# EAGLE library part STM32F429V (library STMicroelectronics)
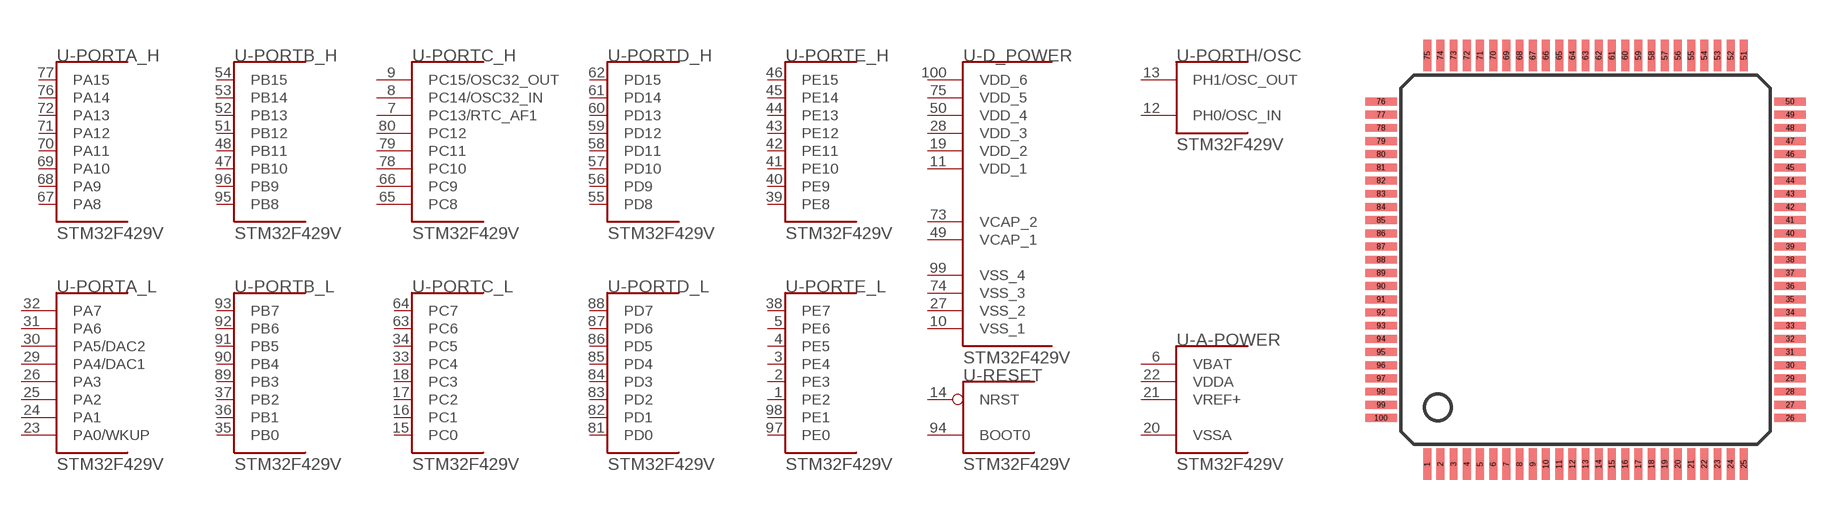
[diagram p1: symbol with the pads of LQFP100; footprint LQFP100]

Designator prefix U; gates -PORTA_L=STM32F_PORTA_L-1 -PORTB_H=STM32F_PORTB_H -PORTB_L=STM32F_PORTB_L -PORTC_H=STM32F_PORTC_H-1 -PORTC_L=STM32F_PORTC_L -PORTD_H=STM32F_PORTD_H -PORTD_L=STM32F_PORTD_L -PORTE_H=STM32F_PORTE_H -PORTE_L=STM32F_PORTE_L -PORTH/OSC=STM32F_PORTH_L -A-POWER=STM32F_A-POWER -PORTA_H=STM32F_PORTA_H -D_POWER=STM32F429VX_D-POWER -RESET=STM32F429VX_RESET

## STM32F429VG (DISTRIBUTOR: Mouser; OC_MOUSER: 511-STM32F429VGT6; ORDER_CODE: 511-STM32F429VGT6)  [LQFP100]
1  -PORTE_L:PE2
2  -PORTE_L:PE3
3  -PORTE_L:PE4
4  -PORTE_L:PE5
5  -PORTE_L:PE6
6  -A-POWER:VBAT  pwr
7  -PORTC_H:PC13/RTC_AF1
8  -PORTC_H:PC14/OSC32_IN
9  -PORTC_H:PC15/OSC32_OUT
10  -D_POWER:VSS_1  pwr
11  -D_POWER:VDD_1  pwr
12  -PORTH/OSC:PH0/OSC_IN  in
13  -PORTH/OSC:PH1/OSC_OUT  out
14  -RESET:NRST  in
15  -PORTC_L:PC0
16  -PORTC_L:PC1
17  -PORTC_L:PC2
18  -PORTC_L:PC3
19  -D_POWER:VDD_2  pwr
20  -A-POWER:VSSA  pwr
21  -A-POWER:VREF+  pwr
22  -A-POWER:VDDA  pwr
23  -PORTA_L:PA0/WKUP
24  -PORTA_L:PA1
25  -PORTA_L:PA2
26  -PORTA_L:PA3
27  -D_POWER:VSS_2  pwr
28  -D_POWER:VDD_3  pwr
29  -PORTA_L:PA4/DAC1
30  -PORTA_L:PA5/DAC2
31  -PORTA_L:PA6
32  -PORTA_L:PA7
33  -PORTC_L:PC4
34  -PORTC_L:PC5
35  -PORTB_L:PB0
36  -PORTB_L:PB1
37  -PORTB_L:PB2
38  -PORTE_L:PE7
39  -PORTE_H:PE8
40  -PORTE_H:PE9
41  -PORTE_H:PE10
42  -PORTE_H:PE11
43  -PORTE_H:PE12
44  -PORTE_H:PE13
45  -PORTE_H:PE14
46  -PORTE_H:PE15
47  -PORTB_H:PB10
48  -PORTB_H:PB11
49  -D_POWER:VCAP_1  pwr
50  -D_POWER:VDD_4  pwr
51  -PORTB_H:PB12
52  -PORTB_H:PB13
53  -PORTB_H:PB14
54  -PORTB_H:PB15
55  -PORTD_H:PD8
56  -PORTD_H:PD9
57  -PORTD_H:PD10
58  -PORTD_H:PD11
59  -PORTD_H:PD12
60  -PORTD_H:PD13
61  -PORTD_H:PD14
62  -PORTD_H:PD15
63  -PORTC_L:PC6
64  -PORTC_L:PC7
65  -PORTC_H:PC8
66  -PORTC_H:PC9
67  -PORTA_H:PA8
68  -PORTA_H:PA9
69  -PORTA_H:PA10
70  -PORTA_H:PA11
71  -PORTA_H:PA12
72  -PORTA_H:PA13
73  -D_POWER:VCAP_2  pwr
74  -D_POWER:VSS_3  pwr
75  -D_POWER:VDD_5  pwr
76  -PORTA_H:PA14
77  -PORTA_H:PA15
78  -PORTC_H:PC10
79  -PORTC_H:PC11
80  -PORTC_H:PC12
81  -PORTD_L:PD0
82  -PORTD_L:PD1
83  -PORTD_L:PD2
84  -PORTD_L:PD3
85  -PORTD_L:PD4
86  -PORTD_L:PD5
87  -PORTD_L:PD6
88  -PORTD_L:PD7
89  -PORTB_L:PB3
90  -PORTB_L:PB4
91  -PORTB_L:PB5
92  -PORTB_L:PB6
93  -PORTB_L:PB7
94  -RESET:BOOT0
95  -PORTB_H:PB8
96  -PORTB_H:PB9
97  -PORTE_L:PE0
98  -PORTE_L:PE1
99  -D_POWER:VSS_4  pwr
100  -D_POWER:VDD_6  pwr

## Footprint LQFP100 (pad centres in mm)
smd 0.3 x 1.2: 1 -6,-7.75; 2 -5.5,-7.75; 3 -5,-7.75; 4 -4.5,-7.75; 5 -4,-7.75; 6 -3.5,-7.75; 7 -3,-7.75; 8 -2.5,-7.75; 9 -2,-7.75; 10 -1.5,-7.75; 11 -1,-7.75; 12 -0.5,-7.75; 13 0,-7.75; 14 0.5,-7.75; 15 1,-7.75; 16 1.5,-7.75; 17 2,-7.75; 18 2.5,-7.75; 19 3,-7.75; 20 3.5,-7.75; 21 4,-7.75; 22 4.5,-7.75; 23 5,-7.75; 24 5.5,-7.75; 25 6,-7.75; 51 6,7.75; 52 5.5,7.75; 53 5,7.75; 54 4.5,7.75; 55 4,7.75; 56 3.5,7.75; 57 3,7.75; 58 2.5,7.75; 59 2,7.75; 60 1.5,7.75; 61 1,7.75; 62 0.5,7.75; 63 0,7.75; 64 -0.5,7.75; 65 -1,7.75; 66 -1.5,7.75; 67 -2,7.75; 68 -2.5,7.75; 69 -3,7.75; 70 -3.5,7.75; 71 -4,7.75; 72 -4.5,7.75; 73 -5,7.75; 74 -5.5,7.75; 75 -6,7.75
smd 1.2 x 0.3: 26 7.75,-6; 27 7.75,-5.5; 28 7.75,-5; 29 7.75,-4.5; 30 7.75,-4; 31 7.75,-3.5; 32 7.75,-3; 33 7.75,-2.5; 34 7.75,-2; 35 7.75,-1.5; 36 7.75,-1; 37 7.75,-0.5; 38 7.75,0; 39 7.75,0.5; 40 7.75,1; 41 7.75,1.5; 42 7.75,2; 43 7.75,2.5; 44 7.75,3; 45 7.75,3.5; 46 7.75,4; 47 7.75,4.5; 48 7.75,5; 49 7.75,5.5; 50 7.75,6; 76 -7.75,6; 77 -7.75,5.5; 78 -7.75,5; 79 -7.75,4.5; 80 -7.75,4; 81 -7.75,3.5; 82 -7.75,3; 83 -7.75,2.5; 84 -7.75,2; 85 -7.75,1.5; 86 -7.75,1; 87 -7.75,0.5; 88 -7.75,0; 89 -7.75,-0.5; 90 -7.75,-1; 91 -7.75,-1.5; 92 -7.75,-2; 93 -7.75,-2.5; 94 -7.75,-3; 95 -7.75,-3.5; 96 -7.75,-4; 97 -7.75,-4.5; 98 -7.75,-5; 99 -7.75,-5.5; 100 -7.75,-6